# EAGLE library part MUX_FSUSB74MPX (library !GPLIB_ACTIVE)
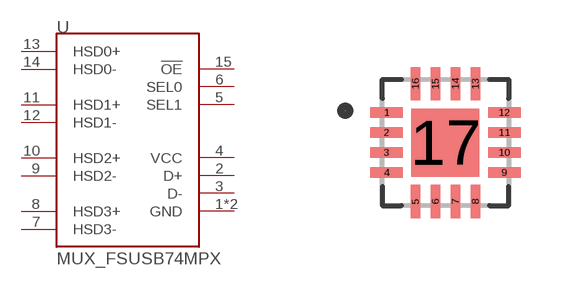
[diagram p12: symbol with the pads of QFN50P300X300X80-17N; footprint QFN50P300X300X80-17N]

Designator prefix U

## MUX_FSUSB74MPX  [QFN50P300X300X80-17N]
1  GND  pwr
2  D+
3  D-
4  VCC  pwr
5  SEL1  in
6  SEL0  in
7  HSD3-
8  HSD3+
9  HSD2-
10  HSD2+
11  HSD1+
12  HSD1-
13  HSD0+
14  HSD0-
15  !OE  in
17  GND  pwr

## Footprint QFN50P300X300X80-17N (pad centres in mm)
smd 0.83 x 0.26: 1 -1.47,0.75; 2 -1.47,0.25; 3 -1.47,-0.25; 4 -1.47,-0.75; 9 1.47,-0.75; 10 1.47,-0.25; 11 1.47,0.25; 12 1.47,0.75
smd 0.26 x 0.83: 5 -0.75,-1.47; 6 -0.25,-1.47; 7 0.25,-1.47; 8 0.75,-1.47; 13 0.75,1.47; 14 0.25,1.47; 15 -0.25,1.47; 16 -0.75,1.47
smd 1.7 x 1.7: 17 0,0